# Altium schematic symbol library Стабилизаторы.SchLib: 32 symbols
Pins are listed as number, name and electrical type; pins without a type are passive.

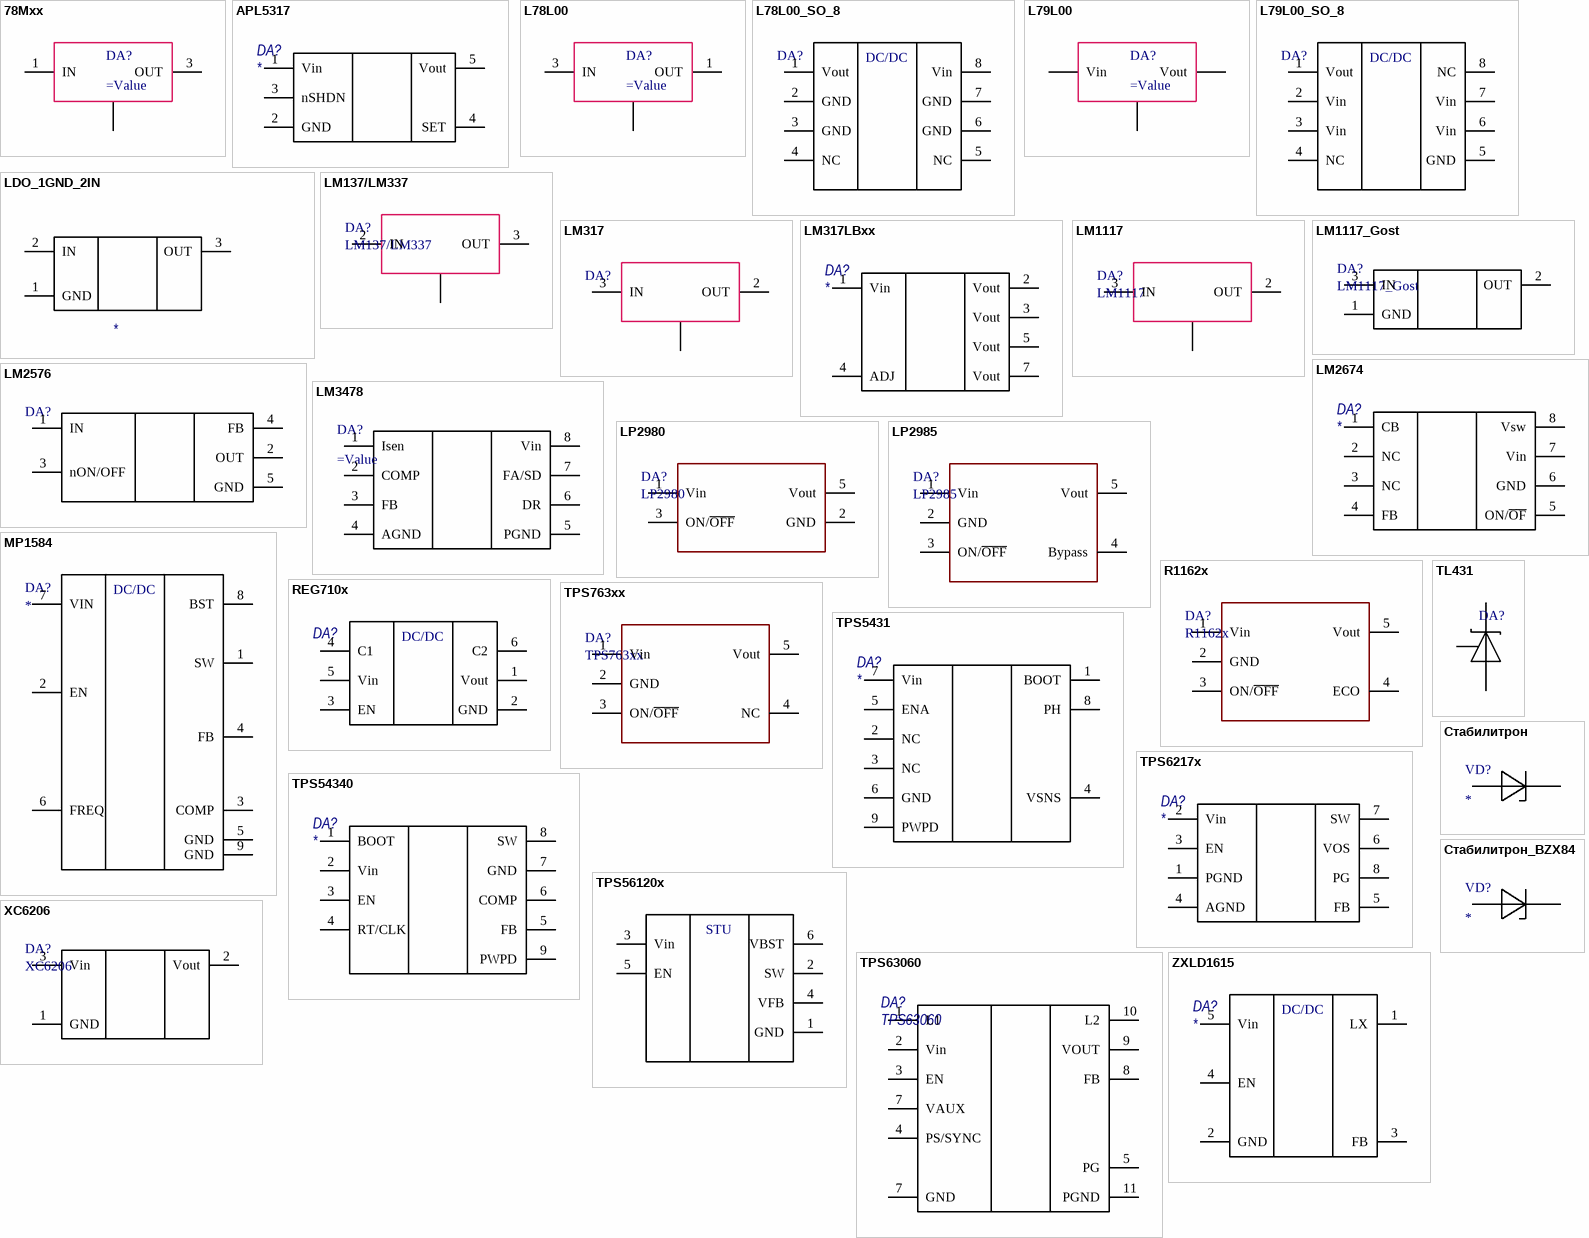
[diagram p0: symbols 78Mxx to Стабилитрон_BZX84]

## 78Mxx
designator DA?
pins: 1 IN, 2 GND, 3 OUT

## APL5317
designator DA?
pins: 1 Vin, 2 GND, 3 nSHDN, 4 SET, 5 Vout

## L78L00
designator DA?
pins: 1 OUT, 2 GND, 3 IN

## L78L00_SO_8
designator DA?
pins: 1 Vout, 2 GND, 3 GND, 4 NC, 5 NC, 6 GND, 7 GND, 8 Vin
text: DC/DC

## L79L00
designator DA?
pins: 1 GND, 2 Vin, 3 Vout

## L79L00_SO_8
designator DA?
pins: 1 Vout, 2 Vin, 3 Vin, 4 NC, 5 GND, 6 Vin, 7 Vin, 8 NC
text: DC/DC

## LDO_1GND_2IN
designator DA?, comment Resistor  (value not drawn)
ManufacturerPartNumber: *
pins: 1 GND, 2 IN, 3 OUT

## LM137/LM337
designator DA?
footprint SOT223 (SOT223, 4-Leads, Body 6,50x7,00mm (avg), Pitch 2,30mm, IPC Medium Density)
pins: 1 ADJ/GND, 2 IN, 3 OUT

## LM317
designator DA?
LM317
pins: 1 GND, 2 OUT, 3 IN

## LM317LBxx
designator DA?
pins: 1 Vin, 2 Vout, 3 Vout, 4 ADJ, 5 Vout, 7 Vout

## LM1117
designator DA?
footprint SOT223 (SOT223, 4-Leads, Body 6,50x7,00mm (avg), Pitch 2,30mm, IPC Medium Density)
pins: 1 GND, 2 OUT, 3 IN

## LM1117_Gost
designator DA?
LM1117
footprint SOT223 (SOT223, 4-Leads, Body 6,50x7,00mm (avg), Pitch 2,30mm, IPC Medium Density)
pins: 1 GND, 2 OUT, 3 IN

## LM2576
designator DA?
LM2576
pins: 1 IN, 2 OUT, 3 nON/OFF, 4 FB, 5 GND

## LM2674
designator DA?
pins: 1 CB, 2 NC, 3 NC, 4 FB, 5 ON/~{OF}, 6 GND, 7 Vin, 8 Vsw

## LM3478
designator DA?
pins: 1 Isen, 2 COMP, 3 FB, 4 AGND, 5 PGND, 6 DR, 7 FA/SD, 8 Vin

## LP2980
designator DA?
footprint SOT95P245X110-5N (SOT23, 5-Leads, Body 2,90x2,45mm, Pitch 0,95mm, IPC Medium Density)
pins: 1 Vin, 2 GND, 3 ON/~{OFF}, 5 Vout

## LP2985
designator DA?
footprint SOT95P245X110-5N (SOT23, 5-Leads, Body 2,90x2,45mm, Pitch 0,95mm, IPC Medium Density)
pins: 1 Vin, 2 GND, 3 ON/~{OFF}, 4 Bypass, 5 Vout

## MP1584
designator DA?
pins: 1 SW, 2 EN, 3 COMP, 4 FB, 5 GND, 6 FREQ, 7 VIN, 8 BST, 9 GND
text: DC/DC

## R1162x
designator DA?
footprint SOT95P245X110-5N (SOT23, 5-Leads, Body 2,90x2,45mm, Pitch 0,95mm, IPC Medium Density)
pins: 1 Vin, 2 GND, 3 ON/~{OFF}, 4 ECO, 5 Vout

## REG710x
designator DA?  (value not drawn)
pins: 1 Vout, 2 GND, 3 EN, 4 C1, 5 Vin, 6 C2
text: DC/DC

## TL431
designator DA?  (value not drawn)
TL431; Rem: *; Корпус: *; Value: *; Tolerance: *; Power/Voltage: *; TKE: *; ManufacturerPartNumber: *; Manufacturer: *; Quantity: *; Примечание: *
pins: 1 A, 2 REF, 3 A

## TPS763xx
designator DA?
footprint SOT95P245X110-5N (SOT23, 5-Leads, Body 2,90x2,45mm, Pitch 0,95mm, IPC Medium Density)
pins: 1 Vin, 2 GND, 3 ON/~{OFF}, 4 NC, 5 Vout

## TPS5431
designator DA?
pins: 1 BOOT, 2 NC, 3 NC, 4 VSNS, 5 ENA, 6 GND, 7 Vin, 8 PH, 9 PWPD

## TPS6217x
designator DA?
pins: 1 PGND, 2 Vin, 3 EN, 4 AGND, 5 FB, 6 VOS, 7 SW, 8 PG

## TPS54340
designator DA?
pins: 1 BOOT, 2 Vin, 3 EN, 4 RT/CLK, 5 FB, 6 COMP, 7 GND, 8 SW, 9 PWPD

## TPS56120x
designator DA?  (value not drawn)
ManufacturerPartNumber: TPS561208DDCT; Корпус: SOT23-6; Rem: *; Tolerance: *; Power/Voltage: *; TKE: *; Manufacturer: Manufacturer; Quantity: *; Примечание: *
footprint SOT23-6 (SOT23, 6-Leads, Body 2,90x2,45mm, Pitch 0,95mm, IPC Medium Density)
pins: 1 GND, 2 SW, 3 Vin, 4 VFB, 5 EN, 6 VBST
text: STU

## TPS63060
designator DA?
pins: 1 L1, 2 Vin, 3 EN, 4 PS/SYNC, 5 PG, 7 VAUX, 7 GND, 8 FB, 9 VOUT, 10 L2, 11 PGND

## XC6206
designator DA?
footprint SOT23-3
pins: 1 GND, 2 Vout, 3 Vin

## ZXLD1615
designator DA?
pins: 1 LX, 2 GND, 3 FB, 4 EN, 5 Vin
text: DC/DC

## РЫБА
designator C?  (value not drawn)
Rem: *; Корпус: *; Value: *; Tolerance: *; Power/Voltage: *; TKE: *; ManufacturerPartNumber: *; Manufacturer: *; Quantity: *; Примечание: *

## Стабилитрон
designator VD?
pins: 1, 2

## Стабилитрон_BZX84
designator VD?
pins: 1 A, 3 C